# Altium integrated library 3.3uf_50v electrolytic cap.IntLib: 1 symbol
Pins are listed as number, name and electrical type; pins without a type are passive.

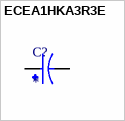
[diagram p0: symbol ECEA1HKA3R3E]

## ECEA1HKA3R3E
designator C?
Aluminum Electrolytic Capacitors, KA-A Series, 3.3uF +/- 20%, 50V, Radial lead type(4x7mm); MP: ECEA1HKA3R3E; MF: Panasonic; SnapEDA_Link: https://www.snapeda.com/parts/ECEA1HKA3R3E/Panasonic/view-part/?ref=snap; Availability: Not in stock; Check_prices: https://www.snapeda.com/parts/ECEA1HKA3R3E/Panasonic/view-part/?ref=eda; Package: RADIAL-2 Panasonic; Price: None; Value: *
footprint CAPPRD500W45D400H700
pins: N, P